# EAGLE library part STE-I-PEX-20455-030E-12 (library STE-I-PEX-20455-030E-12)
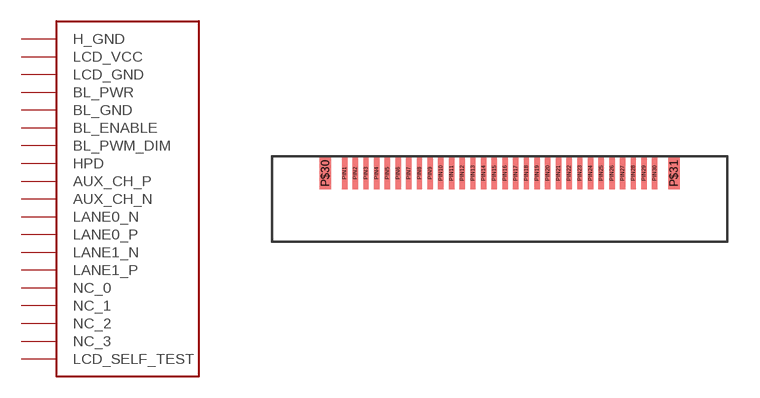
[diagram p0: symbol with the pads of STE-I-PEX-20455-030E-12; footprint STE-I-PEX-20455-030E-12]

Designator prefix -

## STE-I-PEX-20455-030E-12  [STE-I-PEX-20455-030E-12]
PIN1  NC_0
PIN2  H_GND
PIN3  LANE1_N
PIN4  LANE1_P
PIN5  H_GND
PIN6  LANE0_N
PIN7  LANE0_P
PIN8  H_GND
PIN9  AUX_CH_P
PIN10  AUX_CH_N
PIN11  H_GND
PIN12  LCD_VCC
PIN13  LCD_VCC
PIN14  LCD_SELF_TEST
PIN15  LCD_GND
PIN16  LCD_GND
PIN17  HPD
PIN18  BL_GND
PIN19  BL_GND
PIN20  BL_GND
PIN21  BL_GND
PIN22  BL_ENABLE
PIN23  BL_PWM_DIM
PIN24  NC_1
PIN25  NC_2
PIN26  BL_PWR
PIN27  BL_PWR
PIN28  BL_PWR
PIN29  BL_PWR
PIN30  NC_3

## Footprint STE-I-PEX-20455-030E-12 (pad centres in mm)
smd 0.55 x 1.5: P$30 -8.2,1.2; P$31 8.1,1.2
smd 0.25 x 1.5: PIN1 -7.3,1.2; PIN2 -6.8,1.2; PIN3 -6.3,1.2; PIN4 -5.8,1.2; PIN5 -5.3,1.2; PIN6 -4.8,1.2; PIN7 -4.3,1.2; PIN8 -3.8,1.2; PIN9 -3.3,1.2; PIN10 -2.8,1.2; PIN11 -2.3,1.2; PIN12 -1.8,1.2; PIN13 -1.3,1.2; PIN14 -0.8,1.2; PIN15 -0.3,1.2; PIN16 0.2,1.2; PIN17 0.7,1.2; PIN18 1.2,1.2; PIN19 1.7,1.2; PIN20 2.2,1.2; PIN21 2.7,1.2; PIN22 3.2,1.2; PIN23 3.7,1.2; PIN24 4.2,1.2; PIN25 4.7,1.2; PIN26 5.2,1.2; PIN27 5.7,1.2; PIN28 6.2,1.2; PIN29 6.7,1.2; PIN30 7.2,1.2